# EAGLE library part *00 (library digital)
74xx00: Quad 2-input NAND gate
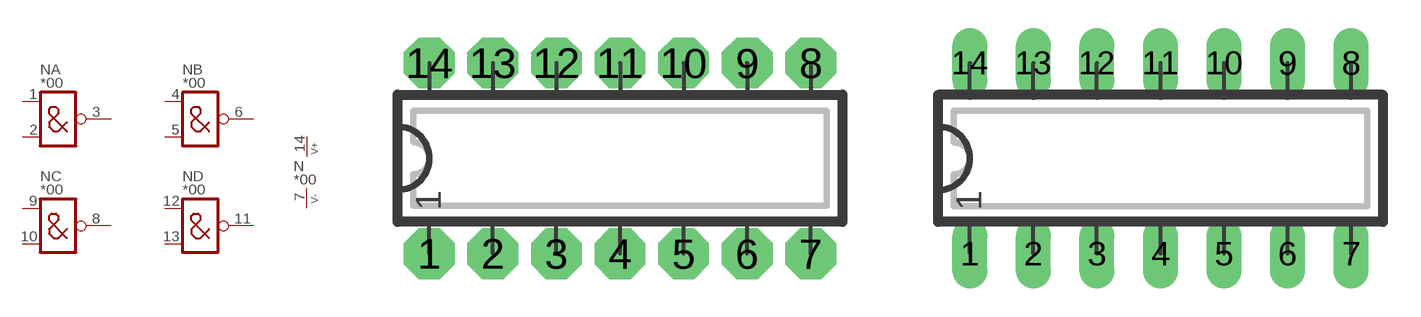
[diagram p16: symbol with the pads of DIP14N; footprints DIP14N, DIP14L]

Designator prefix N; gates A=NAND2 B=NAND2 C=NAND2 D=NAND2 P=V+-

## 7400N, 74AC00N, 74ACT00N, 74ALS00N, 74AS00N, 74C00N, 74HC00N, 74HCT00N, 74L00N, 74LS00N, 74S00N  [DIP14N]
1  A:I1  in
2  A:I2  in
3  A:O  out
4  B:I1  in
5  B:I2  in
6  B:O  out
7  P:V-  pwr
8  C:O  out
9  C:I1  in
10  C:I2  in
11  D:O  out
12  D:I1  in
13  D:I2  in
14  P:V+  pwr

## 7400L, 74AC00L, 74ACT00L, 74ALS00L, 74AS00L, 74C00L, 74HC00L, 74HCT00L, 74L00L, 74LS00L, 74S00L  [DIP14L]
Pads as for DIP14N

## 7400, 74AC00, 74ACT00, 74ALS00, 74AS00, 74C00, 74HC00, 74HCT00, 74L00, 74LS00, 74S00  [DIP14L]
Pads as for DIP14N

## 7400R, 74AC00R, 74ACT00R, 74ALS00R, 74AS00R, 74C00R, 74HC00R, 74HCT00R, 74L00R, 74LS00R, 74S00R  [DIP14R]
Pads as for DIP14N

## 74AC00S, 74ACT00S, 74HC00S, 74HCT00S  [SO14]
Pads as for DIP14N

## Footprint DIP14N (pad centres in mm)
DIP-14 Standard IC package, 14 pins
drill 0.813 pad 2.032 octagon: 1 0,0; 2 2.54,0; 3 5.08,0; 4 7.62,0; 5 10.16,0; 6 12.7,0; 7 15.24,0; 8 15.24,7.62; 9 12.7,7.62; 10 10.16,7.62; 11 7.62,7.62; 12 5.08,7.62; 13 2.54,7.62; 14 0,7.62

## Footprint DIP14L (pad centres in mm)
DIP-14, long pads Standard IC package, 14 pins
drill 0.813 pad 1.397 long: 1 0,0; 2 2.54,0; 3 5.08,0; 4 7.62,0; 5 10.16,0; 6 12.7,0; 7 15.24,0; 8 15.24,7.62; 9 12.7,7.62; 10 10.16,7.62; 11 7.62,7.62; 12 5.08,7.62; 13 2.54,7.62; 14 0,7.62

## Footprint DIP14R (pad centres in mm)
DIP-14, reduced pads Standard IC package, 14 pins
drill 0.813 pad 1.397 square: 1 0,0; 2 2.54,0; 3 5.08,0; 4 7.62,0; 5 10.16,0; 6 12.7,0; 7 15.24,0; 8 15.24,7.62; 9 12.7,7.62; 10 10.16,7.62; 11 7.62,7.62; 12 5.08,7.62; 13 2.54,7.62; 14 0,7.62

## Footprint SO14 (pad centres in mm)
SO-14, SMD SOIC IC package, 14 pins
smd 0.635 x 1.778: 1 -3.81,-2.857; 2 -2.54,-2.857; 3 -1.27,-2.857; 4 0,-2.857; 5 1.27,-2.857; 6 2.54,-2.857; 7 3.81,-2.857; 8 3.81,2.857; 9 2.54,2.857; 10 1.27,2.857; 11 0,2.857; 12 -1.27,2.857; 13 -2.54,2.857; 14 -3.81,2.857